# Altium footprint library QFN65P400X400X100-17N.PcbLib: 2 footprints
Each footprint in its own frame and in the unit in brackets; x right, y up, seen from the top. Pads: shape width x height; smd on the part's side, far side on the other; paste and mask are expansions set on the pad; w line width, h text height; cw(c..) or ccw(c..) is an arc to the next point about the centre after c.
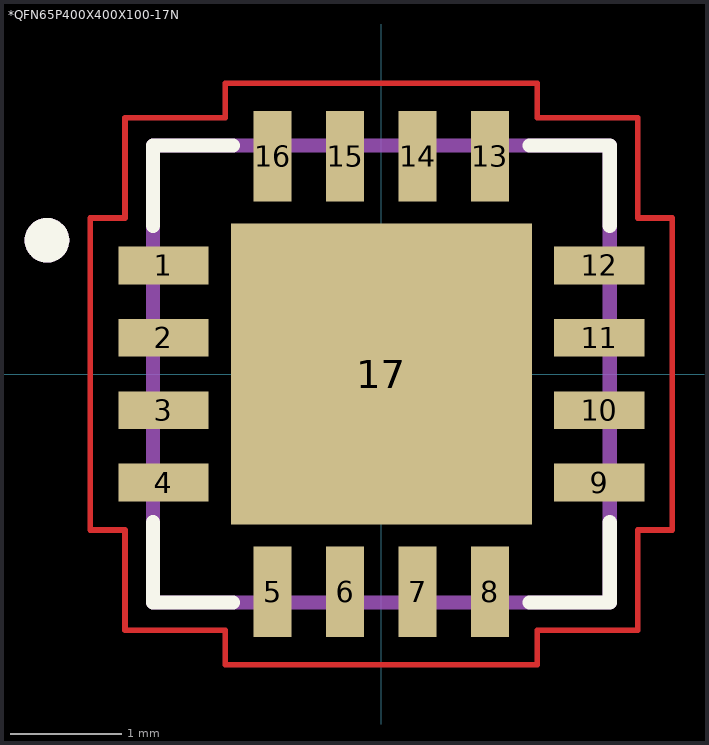
[diagram p0: the footprints below, top view; thin cyan lines are the x and y axes]

## *QFN65P400X400X100-17N [mm]
pads (17):
  rect 0.81x0.34 smd: 1(-1.955,0.975) 2(-1.955,0.325) 3(-1.955,-0.325) 4(-1.955,-0.975) 9(1.955,-0.975) 10(1.955,-0.325) 11(1.955,0.325) 12(1.955,0.975)
  rect 0.34x0.81 smd: 5(-0.975,-1.955) 6(-0.325,-1.955) 7(0.325,-1.955) 8(0.975,-1.955) 13(0.975,1.955) 14(0.325,1.955) 15(-0.325,1.955) 16(-0.975,1.955)
  rect 2.7x2.7 smd: 17(0,0)
Top Layer:
  lines w0.05: -2.61,-1.4 -2.3,-1.4 -2.3,-2.3 -1.4,-2.3 -1.4,-2.61 1.4,-2.61 1.4,-2.3 2.3,-2.3 2.3,-1.4 2.61,-1.4 2.61,1.4 2.3,1.4 2.3,2.3 1.4,2.3 1.4,2.61 -1.4,2.61 -1.4,2.3 -2.3,2.3 -2.3,1.4 -2.61,1.4 -2.61,-1.4
Top Overlay:
  circle w0.2: c-3,1.2 r0.1
  lines w0.127: -2.05,-1.33 -2.05,-2.05 -1.33,-2.05 ; -2.05,1.33 -2.05,2.05 -1.33,2.05 ; 1.33,-2.05 2.05,-2.05 2.05,-1.33 ; 1.33,2.05 2.05,2.05 2.05,1.33
Top Paste:
  region: -0.853,0.853 0.853,0.853 0.853,-0.853 -0.853,-0.853
Mechanical 4:
  circle w0.2: c-3,1.2 r0.1
  circle w0.2: c-3,1.2 r0.1
  lines w0.127: -2.05,-2.05 2.05,-2.05 ; -2.05,-2.05 -2.05,2.05 ; -2.05,-2.05 2.05,-2.05 ; -2.05,-2.05 -2.05,2.05 ; -2.05,2.05 2.05,2.05 ; -2.05,2.05 2.05,2.05 ; 2.05,-2.05 2.05,2.05 ; 2.05,-2.05 2.05,2.05

## PCBComponent_1 [mm]